# Altium schematic symbol library Conn_Wurth_Electronics_74655095R_eec.SchLib: 1 symbol
Pins are listed as number, name and electrical type; pins without a type are passive.

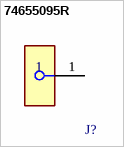
[diagram p0: symbol 74655095R]

## 74655095R
designator J?  (value not drawn)
pins: 1